# Altium footprint library WQFN_RTV32.PcbLib: 1 footprints
Each footprint in its own frame and in the unit in brackets; x right, y up, seen from the top. Pads: shape width x height; smd on the part's side, far side on the other; paste and mask are expansions set on the pad; w line width, h text height; cw(c..) or ccw(c..) is an arc to the next point about the centre after c.
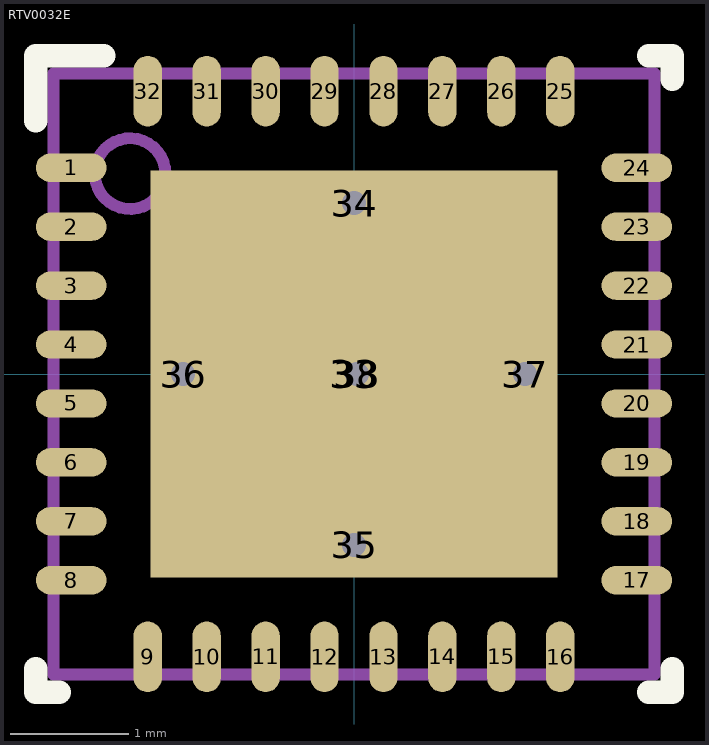
[diagram p0: the footprint, top view; thin cyan lines are the x and y axes]

## RTV0032E [mm]
pads (38):
  oval 0.6x0.24 smd paste+0 mask+0: 1(-2.4,1.75) 2(-2.4,1.25) 3(-2.4,0.75) 4(-2.4,0.25) 5(-2.4,-0.25) 6(-2.4,-0.75) 7(-2.4,-1.25) 8(-2.4,-1.75) 17(2.4,-1.75) 18(2.4,-1.25) 19(2.4,-0.75) 20(2.4,-0.25) 21(2.4,0.25) 22(2.4,0.75) 23(2.4,1.25) 24(2.4,1.75)
  oval 0.24x0.6 smd paste+0 mask+0: 9(-1.75,-2.4) 10(-1.25,-2.4) 11(-0.75,-2.4) 12(-0.25,-2.4) 13(0.25,-2.4) 14(0.75,-2.4) 15(1.25,-2.4) 16(1.75,-2.4) 25(1.75,2.4) 26(1.25,2.4) 27(0.75,2.4) 28(0.25,2.4) 29(-0.25,2.4) 30(-0.75,2.4) 31(-1.25,2.4) 32(-1.75,2.4)
  rect 3.45x3.45 smd paste-1.712 mask+0: 33(0,0)
  round 0.5 hole 0.203 mask+0: 34(0,1.45) 35(0,-1.45) 36(-1.45,0) 37(1.45,0) 38(0.025,0)
Top Overlay:
  lines w0.2: -2.7,-2.5 -2.7,-2.7 -2.5,-2.7 ; -2.7,2.15 -2.7,2.7 -2.125,2.7 ; 2.5,-2.7 2.7,-2.7 2.7,-2.5 ; 2.5,2.7 2.7,2.7 2.7,2.5
Top Paste:
  region: 0.1,1.586 0.1,0.1 1.586,0.1 1.586,1.586
  region: -0.1,0.1 -0.1,1.586 -1.586,1.586 -1.586,0.1
  region: -0.1,-1.586 -0.1,-0.1 -1.586,-0.1 -1.586,-1.586
  region: 0.1,-0.1 0.1,-1.586 1.586,-1.586 1.586,-0.1
Mechanical 13:
  circle w0.1: c-1.9,1.7 r0.3
  lines w0.1: -2.55,-2.55 -2.55,2.55 2.55,2.55 2.55,-2.55 -2.55,-2.55
  text ".Designator" at -1.524,-1.143 h1.27
3D body "WQFN_RTV32_5P15X5P15.stp": height 0.8, standoff 0, extent -2.5,-2.5 2.5,2.5
3D body "WQFN_RTV32_5P15X5P15.stp": height 0.8, standoff 0, extent -2.5,-2.5 2.5,2.5
3D body "WQFN_RTV32_5P15X5P15.stp": height 0.8, standoff 0, extent -2.5,-2.5 2.5,2.5